# Altium schematic symbol library IRF7105.SchLib: 1 symbol
Pins are listed as number, name and electrical type; pins without a type are passive.

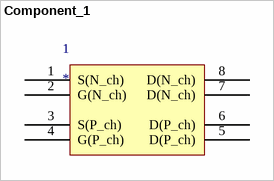
[diagram p0: symbol Component_1]

## Component_1
designator 1
footprint SO-8_N (8-Pin Small Outline Integrated Circuit 1.27 mm Pitch, IPC Medium Density)
pins: 1 S(N_ch) "1A", 2 G(N_ch) "1A", 3 S(P_ch) "1A", 4 G(P_ch) "1A", 5 D(P_ch) "1A", 6 D(P_ch) "1A", 7 D(N_ch) "1A", 8 D(N_ch) "1A"